# Altium schematic symbol library PIC32MX470-F512H-120MR.SchLib: 1 symbol
Pins are listed as number, name and electrical type; pins without a type are passive.

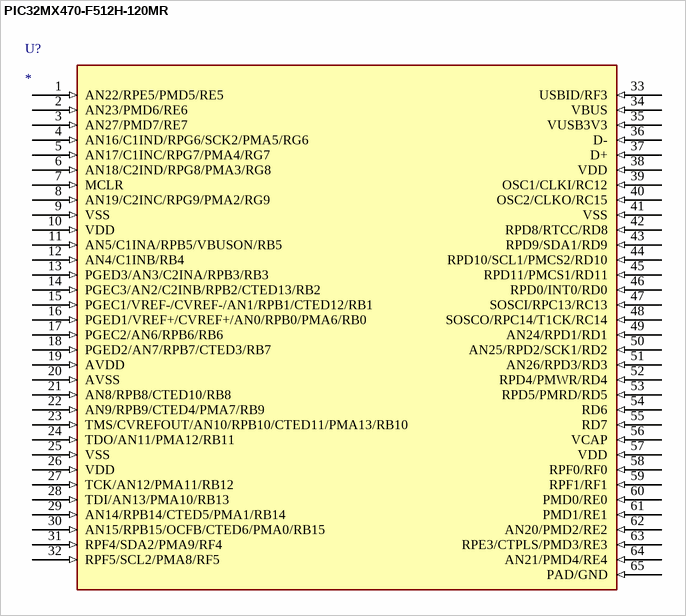
[diagram p0: symbol PIC32MX470-F512H-120MR]

## PIC32MX470-F512H-120MR
designator U?
footprint QFN50P900X900X100-65N
pins: 1 AN22/RPE5/PMD5/RE5 (in), 2 AN23/PMD6/RE6 (in), 3 AN27/PMD7/RE7 (in), 4 AN16/C1IND/RPG6/SCK2/PMA5/RG6 (in), 5 AN17/C1INC/RPG7/PMA4/RG7  (in), 6 AN18/C2IND/RPG8/PMA3/RG8 (in), 7 MCLR (in), 8 AN19/C2INC/RPG9/PMA2/RG9 (in), 9 VSS (in), 10 VDD (in), 11 AN5/C1INA/RPB5/VBUSON/RB5 (in), 12 AN4/C1INB/RB4 (in), 13 PGED3/AN3/C2INA/RPB3/RB3 (in), 14 PGEC3/AN2/C2INB/RPB2/CTED13/RB2 (in), 15 PGEC1/VREF-/CVREF-/AN1/RPB1/CTED12/RB1 (in), 16 PGED1/VREF+/CVREF+/AN0/RPB0/PMA6/RB0 (in), 17 PGEC2/AN6/RPB6/RB6 (in), 18 PGED2/AN7/RPB7/CTED3/RB7 (in), 19 AVDD (in), 20 AVSS (in), 21 AN8/RPB8/CTED10/RB8 (in), 22 AN9/RPB9/CTED4/PMA7/RB9 (in), 23 TMS/CVREFOUT/AN10/RPB10/CTED11/PMA13/RB10 (in), 24 TDO/AN11/PMA12/RB11 (in), 25 VSS (in), 26 VDD (in), 27 TCK/AN12/PMA11/RB12 (in), 28 TDI/AN13/PMA10/RB13 (in), 29 AN14/RPB14/CTED5/PMA1/RB14 (in), 30 AN15/RPB15/OCFB/CTED6/PMA0/RB15 (in), 31 RPF4/SDA2/PMA9/RF4 (in), 32 RPF5/SCL2/PMA8/RF5 (in), 33 USBID/RF3 (in), 34 VBUS (in), 35 VUSB3V3 (in), 36 D- (in), 37 D+ (in), 38 VDD (in), 39 OSC1/CLKI/RC12 (in), 40 OSC2/CLKO/RC15 (in), 41 VSS (in), 42 RPD8/RTCC/RD8 (in), 43 RPD9/SDA1/RD9 (in), 44 RPD10/SCL1/PMCS2/RD10 (in), 45 RPD11/PMCS1/RD11 (in), 46 RPD0/INT0/RD0 (in), 47 SOSCI/RPC13/RC13 (in), 48 SOSCO/RPC14/T1CK/RC14 (in), 49 AN24/RPD1/RD1 (in), 50 AN25/RPD2/SCK1/RD2 (in), 51 AN26/RPD3/RD3 (in), 52 RPD4/PMWR/RD4 (in), 53 RPD5/PMRD/RD5 (in), 54 RD6 (in), 55 RD7 (in), 56 VCAP (in), 57 VDD (in), 58 RPF0/RF0 (in), 59 RPF1/RF1 (in), 60 PMD0/RE0 (in), 61 PMD1/RE1 (in), 62 AN20/PMD2/RE2 (in), 63 RPE3/CTPLS/PMD3/RE3 (in), 64 AN21/PMD4/RE4 (in), 65 PAD/GND (in)